# Altium footprint library Microphone-Arm.PcbLib: 6 footprints
Each footprint in its own frame and in the unit in brackets; x right, y up, seen from the top. Pads: shape width x height; smd on the part's side, far side on the other; paste and mask are expansions set on the pad; w line width, h text height; cw(c..) or ccw(c..) is an arc to the next point about the centre after c.
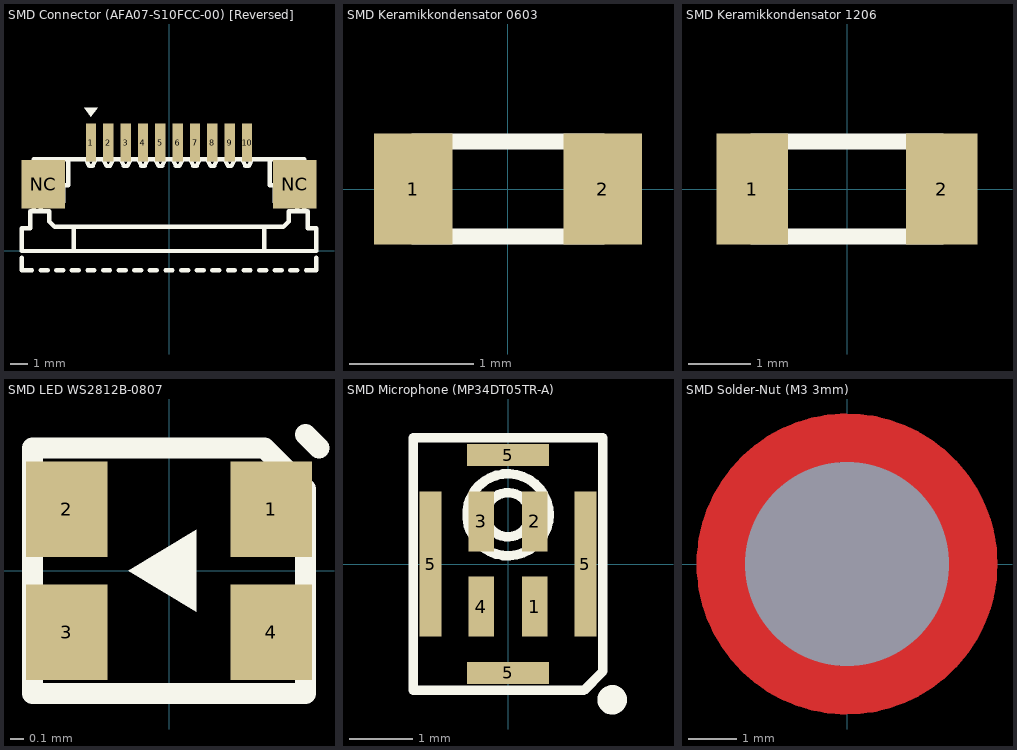
[diagram p0: the footprints below, top view; thin cyan lines are the x and y axes]

## SMD Connector (AFA07-S10FCC-00) [Reversed] [mm] "SMD_LED_RED"
height 8.65
pads (12):
  rect 0.6x2.2 smd: 1(-4.5,6.25) 2(-3.5,6.25) 3(-2.5,6.25) 4(-1.5,6.25) 5(-0.5,6.25) 6(0.5,6.25) 7(1.5,6.25) 8(2.5,6.25) 9(3.5,6.25) 10(4.5,6.25)
  rect 2.5x2.8 smd: NC(-7.25,3.85) NC(7.25,3.85)
Top Overlay:
  region: -4.5,7.75 -4.9,8.25 -4.1,8.25
  lines w0.254: -8.5,-0.4 -8.5,-1.1 -8,-1.1 ; -8.2,-1.1 -7.9,-1.1 ; -7.8,2.3 -7.8,5.3 -5.8,5.3 ; -7.4,-1.1 -7,-1.1 ; -7.4,2.3 -7.4,5.3 ; -7.4,2.8 -6.1,2.8 -6.1,3.8 -5.8,3.8 -5.8,5.3 ; -6.5,-1.1 -6.1,-1.1 ; -5.6,-1.1 -5.2,-1.1 ; -5.5,0 -5.5,1.4 ; -4.8,5.3 -4.6,4.9 -4.5,4.9 -4.4,4.9 -4.2,5.3 ; -4.7,-1.1 -4.3,-1.1 ; -3.8,-1.1 -3.4,-1.1 ; -3.8,5.3 -3.6,4.9 -3.5,4.9 -3.4,4.9 -3.2,5.3 ; -2.9,-1.1 -2.5,-1.1 ; -2.8,5.3 -2.6,4.9 -2.5,4.9 -2.4,4.9 -2.2,5.3 ; -2,-1.1 -1.6,-1.1 ; -1.8,5.3 -1.6,4.9 -1.5,4.9 -1.4,4.9 -1.2,5.3 ; -1.1,-1.1 -0.7,-1.1 ; -0.8,5.3 -0.6,4.9 -0.5,4.9 -0.4,4.9 -0.2,5.3 ; -0.2,-1.1 0.2,-1.1 ; 0.2,5.3 0.4,4.9 0.5,4.9 0.6,4.9 0.8,5.3 ; 0.7,-1.1 1.1,-1.1 ; 1.2,5.3 1.4,4.9 1.5,4.9 1.6,4.9 1.8,5.3 ; 1.6,-1.1 2,-1.1 ; 2.2,5.3 2.4,4.9 2.5,4.9 2.6,4.9 2.8,5.3 ; 2.5,-1.1 2.9,-1.1 ; 3.2,5.3 3.4,4.9 3.5,4.9 3.6,4.9 3.8,5.3 ; 3.4,-1.1 3.8,-1.1 ; 4.2,5.3 4.4,4.9 4.5,4.9 4.6,4.9 4.8,5.3 ; 4.3,-1.1 4.7,-1.1 ; 5.2,-1.1 5.6,-1.1 ; 5.5,0 5.5,1.4 ; 6.1,-1.1 6.5,-1.1 ; 7,-1.1 7.4,-1.1 ; 7.4,2.3 7.4,5.3 ; 7.4,2.8 6.1,2.8 6.1,3.8 5.8,3.8 5.8,5.3 ; 7.8,2.3 7.8,5.3 5.8,5.3 ; 7.9,-1.1 8.2,-1.1 ; 8,-1.1 8.5,-1.1 8.5,-0.4 ; -5.8,5.3 0,5.3 5.8,5.3 ; -5.5,1.4 -6.6,1.4 -6.9,1.7 -6.9,2.3 -8,2.3 -8,1.3 -8.5,1.3 -8.5,0 0,0 8.5,0 8.5,1.3 8,1.3 8,2.3 6.9,2.3 6.9,1.7 6.6,1.4 5.5,1.4 ; -5.5,1.4 0,1.4 5.5,1.4
3D body "FFC3B07-10-G.x_b": height 2.57, standoff 0, extent -8.5,0 8.5,6.75

## SMD Keramikkondensator 0603 [mil]
height 66.93
pads (2):
  rect 25x35 smd: 1(-30,0) 2(30,0)
Top Overlay:
  lines w5: -30,-15 -30,15 30,15 30,-15 -30,-15
3D body "User Library-0603_Cap.STEP": height 31.69, standoff 0, extent -31.49,-15.74 31.5,15.75

## SMD Keramikkondensator 1206 [mil]
pads (2):
  rect 45x70 smd: 1(-60,0) 2(60,0)
Top Overlay:
  lines w10: -60,-30 60,-30 60,30 -60,30 -60,-30
3D body "User Library-1206 SMD Capacitor.step": height 39.45, standoff 0, extent -62.98,-31.49 63,31.51

## SMD LED WS2812B-0807 [mm] "SMD_LED_RED"
height 8.65
pads (4):
  rect 0.6x0.7 smd: 1(0.75,0.45) 2(-0.75,0.45) 3(-0.75,-0.45) 4(0.75,-0.45)
Top Overlay:
  region: 0.2,0.3 -0.3,0 0.2,-0.3
  lines w0.152: 1,1 1.1,0.9 ; -1,-0.9 -1,0.9 0.7,0.9 1,0.6 1,-0.9 -1,-0.9
3D body "WS2812-0807.SLDPRT": height 0.85, standoff 0.01, extent -1,-0.9 1,0.9

## SMD Microphone (MP34DT05TR-A) [mm]
pads (8):
  rect 0.4x0.95 smd: 1(0.425,-0.675) 2(0.425,0.675) 3(-0.425,0.675) 4(-0.425,-0.675)
  rect 0.35x2.3 smd: 5(-1.225,0) 5(1.225,0)
  rect 1.3x0.35 smd: 5(0,-1.725) 5(0,1.725)
Top Overlay:
  circle w0.254: c1.65,-2.15 r0.106
  circle w0.152: c0,0.78 r0.65
  circle w0.152: c0,0.78 r0.35
  lines w0.152: -1.5,-2 -1.5,0 -1.5,2 0,2 1.5,2 1.5,0 1.5,-1.7 1.2,-2 0,-2 -1.5,-2
3D body "User Library-hclga_4l.x_t": height 1.02, standoff 0.01, extent -1.5,-2 1.5,2

## SMD Solder-Nut (M3 3mm) [mm]
pads (1):
  round 0 hole 4.22: 1(0,0)
Top Layer:
  circle w1.02: c0,0 r2.61
Top Paste:
  region: 1.989,-0.704 2.042,-0.533 2.102,-0.179 2.102,0.179 2.042,0.533 1.989,0.704 2.914,1.087 3.011,0.826 3.11,0.278 3.11,-0.278 3.011,-0.826 2.914,-1.087
  region: 0.908,1.904 1.067,1.82 1.36,1.613 1.613,1.36 1.82,1.067 1.904,0.908 2.829,1.291 2.714,1.545 2.396,2.002 2.002,2.396 1.545,2.714 1.291,2.829
  region: -0.704,-1.989 -0.533,-2.042 -0.179,-2.102 0.179,-2.102 0.533,-2.042 0.704,-1.989 1.087,-2.914 0.826,-3.011 0.278,-3.11 -0.278,-3.11 -0.826,-3.011 -1.087,-2.914
  region: 1.904,-0.908 1.82,-1.067 1.613,-1.36 1.36,-1.613 1.067,-1.82 0.908,-1.904 1.291,-2.829 1.545,-2.714 2.002,-2.396 2.396,-2.002 2.714,-1.545 2.829,-1.291
  region: -1.989,0.704 -2.042,0.533 -2.102,0.179 -2.102,-0.179 -2.042,-0.533 -1.989,-0.704 -2.914,-1.087 -3.011,-0.826 -3.11,-0.278 -3.11,0.278 -3.011,0.826 -2.914,1.087
  region: -0.908,-1.904 -1.067,-1.82 -1.36,-1.613 -1.613,-1.36 -1.82,-1.067 -1.904,-0.908 -2.829,-1.291 -2.714,-1.545 -2.396,-2.002 -2.002,-2.396 -1.545,-2.714 -1.291,-2.829
  region: 0.704,1.989 0.533,2.042 0.179,2.102 -0.179,2.102 -0.533,2.042 -0.704,1.989 -1.087,2.914 -0.826,3.011 -0.278,3.11 0.278,3.11 0.826,3.011 1.087,2.914
  region: -1.904,0.908 -1.82,1.067 -1.613,1.36 -1.36,1.613 -1.067,1.82 -0.908,1.904 -1.291,2.829 -1.545,2.714 -2.002,2.396 -2.396,2.002 -2.714,1.545 -2.829,1.291
Top Solder:
  circle w1.102: c0,0 r2.661
3D body "SMTSO3030CTJ.x_t": height 3, standoff -1.53, extent -2.606,-2.606 2.606,2.606